# Altium footprint library dl002.PcbLib: 32 footprints (part 1 of 2)
Each footprint in its own frame and in the unit in brackets; x right, y up, seen from the top. Pads: shape width x height; smd on the part's side, far side on the other; paste and mask are expansions set on the pad; w line width, h text height; cw(c..) or ccw(c..) is an arc to the next point about the centre after c.
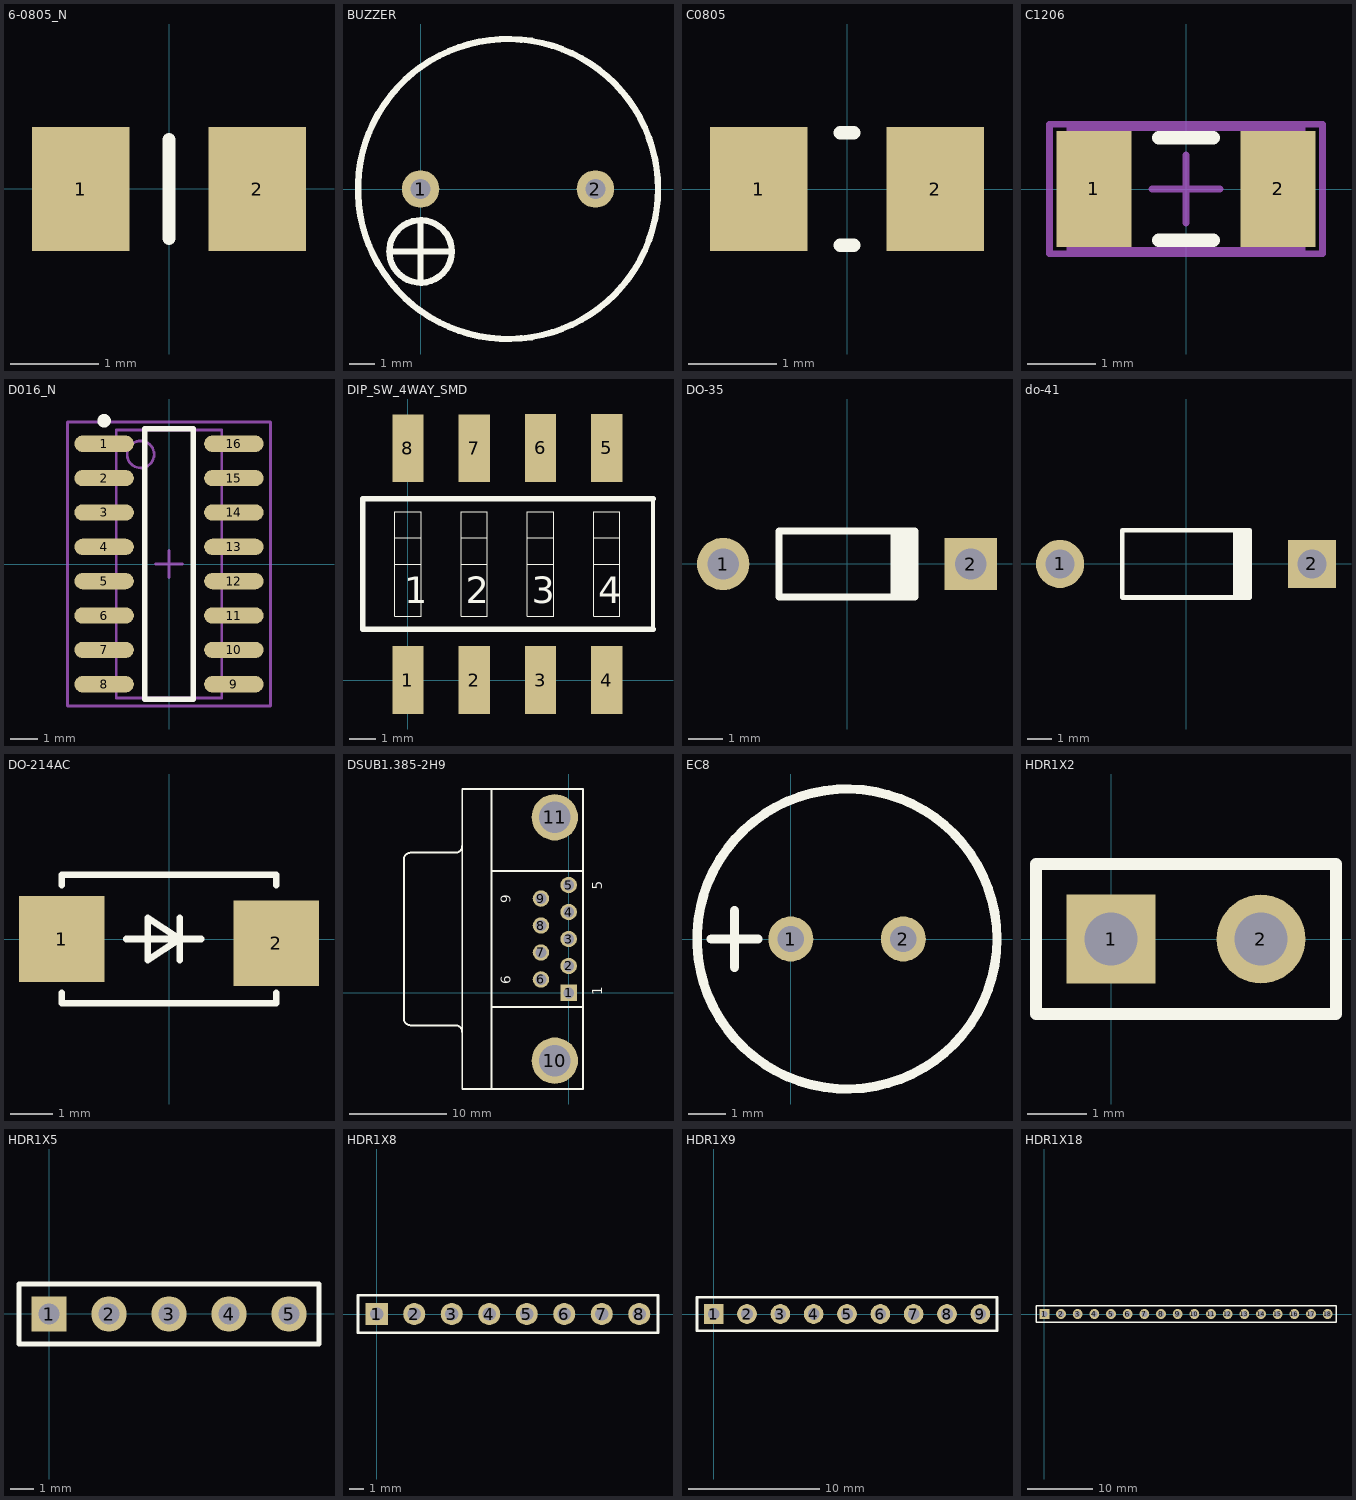
[diagram p0: the footprints below, top view; thin cyan lines are the x and y axes]

## 6-0805_N [mm] "Chip Resistor, Body 2.0x1.2mm, IPC Medium Density"
height 0.7
pads (2):
  rect 1.1x1.4 smd: 1(-1,0) 2(1,0)
Top Overlay:
  lines w0.152: 0,-0.559 0,0.559

## BUZZER [mm]
height 5
pads (2):
  round 1.5 hole 0.8: 1(0,0) 2(7,0)
Top Overlay:
  circle w0.254: c0,-2.5 r1.25
  circle w0.254: c3.5,0 r6.005
  lines w0.254: -1.25,-2.5 1.25,-2.5 ; 0,-3.75 0,-1.25

## C0805 [mm] "Chip Capacitor, Body 2.0x1.3mm, IPC High Density"
height 1.4
pads (2):
  rect 1.1x1.4 smd: 1(-1,0) 2(1,0)
Top Overlay:
  lines w0.152: -0.076,-0.635 0.076,-0.635 ; -0.076,0.635 0.076,0.635

## C1206 [mm] "Chip Capacitor, Body 3.2x1.6mm, IPC High Density"
height 1.3
pads (2):
  rect 1.1x1.7 smd: 1(-1.35,0) 2(1.35,0)
Top Overlay:
  lines w0.2: -0.4,-0.75 0.4,-0.75 ; -0.4,0.75 0.4,0.75
Mechanical 13:
  lines w0.1: -1.7,-0.9 1.7,-0.9 1.7,0.9 -1.7,0.9 -1.7,-0.9
Mechanical 15:
  lines w0.1: -0.5,0 0.5,0 ; 0,-0.5 0,0.5 ; -2,-0.95 2,-0.95 2,0.95 -2,0.95 -2,-0.95
3D body: height 1.3, standoff 0, extent -1.7,-0.9 1.7,0.9

## D016_N [mm] "SOIC, 16-Leads, Body 9.9x3.9mm, Pitch 1.27mm, IPC Medium Density"
height 1.75
pads (16):
  oval 2.2x0.6 smd: 1(-2.4,4.445) 2(-2.4,3.175) 3(-2.4,1.905) 4(-2.4,0.635) 5(-2.4,-0.635) 6(-2.4,-1.905) 7(-2.4,-3.175) 8(-2.4,-4.445) 9(2.4,-4.445) 10(2.4,-3.175) 11(2.4,-1.905) 12(2.4,-0.635) 13(2.4,0.635) 14(2.4,1.905) 15(2.4,3.175) 16(2.4,4.445)
Top Overlay:
  circle w0.25: c-2.4,5.295 r0.125
  lines w0.2: -0.9,-5 0.9,-5 0.9,5 -0.9,5 -0.9,-5
Mechanical 13:
  circle w0.1: c-1.05,4.05 r0.5
  lines w0.1: -1.95,-4.95 1.95,-4.95 1.95,4.95 -1.95,4.95 -1.95,-4.95
Mechanical 15:
  lines w0.1: -0.5,0 0.5,0 ; 0,-0.5 0,0.5 ; -3.75,-5.25 3.75,-5.25 3.75,5.25 -3.75,5.25 -3.75,-5.25
3D body: height 1.75, standoff 0, extent -1.95,-4.95 1.95,4.95

## DIP_SW_4WAY_SMD [mm]
height 2.54
pads (8):
  rect 1.2x2.6 smd: 1(0,0) 2(2.54,0) 3(5.08,0) 4(7.62,0) 5(7.62,8.9) 6(5.08,8.9) 7(2.54,8.89) 8(0,8.89)
Top Overlay:
  lines w0.025: -0.5,4.45 0.5,4.45 ; -0.5,5.45 0.5,5.45 ; 2.04,4.45 3.04,4.45 ; 2.04,5.45 3.04,5.45 ; 4.58,4.45 5.58,4.45 ; 4.58,5.45 5.58,5.45 ; 7.12,4.45 8.12,4.45 ; 7.12,5.45 8.12,5.45 ; -0.5,2.45 0.5,2.45 0.5,6.45 -0.5,6.45 -0.5,2.45 ; 2.04,2.45 3.04,2.45 3.04,6.45 2.04,6.45 2.04,2.45 ; 4.58,2.45 4.58,6.45 5.58,6.45 5.58,2.45 4.58,2.45 ; 7.12,2.45 7.12,6.45 8.12,6.45 8.12,2.45 7.12,2.45
  lines w0.152: 9.398,1.95 9.398,6.95
  lines w0.2: 9.398,1.95 -1.73,1.95 -1.73,6.95 9.398,6.95
  text "4" at 7.29,2.951 h1.02
  text "3" at 4.75,2.951 h1.02
  text "1" at -0.152,2.951 h1.02
  text "2" at 2.21,2.951 h1.02

## DO-35 [mm] "Diode, Axial; Body 3.8 x 1.9 mm (LxDia. max), Lead Dia. 0.53 mm (max)"
height 1.9
pads (2):
  round 1.5 hole 0.9: 1(-3.55,0)
  rect 1.5x1.5 hole 0.9: 2(3.55,0)
Top Overlay:
  rectangle: 1.25,-0.95 2.05,0.95
  lines w0.2: 1.95,-0.95 -1.95,-0.95 -1.95,0.95 1.95,0.95

## do-41 [mm] "Diode, Axial; Body 5.2 x 2.7 mm (LxDia. max), Lead Dia. 0.86 mm (max)"
height 2.8
pads (2):
  round 2 hole 1.2: 1(-5.23,0)
  rect 2x2 hole 1.2: 2(5.23,0)
Top Overlay:
  rectangle: 1.95,-1.406 2.75,1.394
  lines w0.2: 2.65,-1.4 -2.65,-1.4 -2.65,1.4 2.65,1.4

## DO-214AC [mm]
height 2.032
pads (2):
  rect 2x2 smd: 1(-2.5,0) 2(2.5,-0.1)
Top Overlay:
  lines w0.152: -2.5,-1.25 -2.5,-1.5 2.5,-1.5 2.5,-1.25 ; -2.5,1.25 -2.5,1.5 2.5,1.5 2.5,1.25 ; -1,0 0.75,0 ; 0.25,-0.5 0.25,0.5 ; -0.5,-0.5 -0.5,0.5 0.25,0 -0.5,-0.5

## DSUB1.385-2H9 [mm]
height 2.54
pads (11):
  rect 1.69x1.69 hole 1.09: 1(0,0)
  round 1.69 hole 1.09: 2(0,2.77) 3(0,5.54) 4(0,8.31) 5(0,11.08) 6(-2.84,1.385) 7(-2.84,4.155) 8(-2.84,6.925) 9(-2.84,9.695)
  round 4.76 hole 3.26: 10(-1.42,-6.955) 11(-1.42,18.035)
Top Overlay:
  lines w0.2: -16.225,-3.32 cw(c-16.225,-2.625) -16.92,-2.625 -16.92,13.705 cw(c-16.225,13.705) -16.225,14.4 ; -16.22,-3.325 -11.62,-3.325 cw(c-11.62,-4.02) -10.925,-4.02 ; -16.22,14.405 -11.62,14.405 ccw(c-11.62,15.1) -10.925,15.1 ; -7.92,-9.86 -7.92,20.94 ; -7.92,-1.46 1.48,-1.46 ; -7.92,12.54 1.48,12.54 ; -10.92,-9.86 -10.92,20.94 1.48,20.94 1.48,-9.86 -10.92,-9.86
  text "6" at -5.945,0.885 h1.02
  text "9" at -5.945,9.195 h1.02
  text "5" at 3.455,10.58 h1.02
  text "1" at 3.455,-0.25 h1.02

## EC8 [mil]
height 11
pads (2):
  round 48 hole 28: 1(0,0) 2(120,0)
Top Overlay:
  circle w10: c60,0 r160
  lines w10: -85,0 -35,0 ; -60,-30 -60,30

## HDR1X2 [mm] "Connector; Header; 2 Position"
height 2.54
pads (2):
  rect 1.5x1.5 hole 0.9: 1(0,0)
  round 1.5 hole 0.9: 2(2.54,0)
Top Overlay:
  lines w0.2: -1.27,-1.27 -1.27,1.27 3.81,1.27 3.81,-1.27 -1.27,-1.27

## HDR1X5 [mm] "Connector; Header; 5 Position"
height 2.54
pads (5):
  rect 1.5x1.5 hole 0.9: 1(0,0)
  round 1.5 hole 0.9: 2(2.54,0) 3(5.08,0) 4(7.62,0) 5(10.16,0)
Top Overlay:
  lines w0.2: -1.27,-1.27 -1.27,1.27 11.43,1.27 11.43,-1.27 -1.27,-1.27

## HDR1X8 [mm] "Connector; Header; 8 Position"
height 2.54
pads (8):
  rect 1.5x1.5 hole 0.9: 1(0,0)
  round 1.5 hole 0.9: 2(2.54,0) 3(5.08,0) 4(7.62,0) 5(10.16,0) 6(12.7,0) 7(15.24,0) 8(17.78,0)
Top Overlay:
  lines w0.2: -1.27,-1.27 -1.27,1.27 19.05,1.27 19.05,-1.27 -1.27,-1.27

## HDR1X9 [mm] "Connector; Header; 9 Position"
height 2.54
pads (9):
  rect 1.5x1.5 hole 0.9: 1(0,0)
  round 1.5 hole 0.9: 2(2.54,0) 3(5.08,0) 4(7.62,0) 5(10.16,0) 6(12.7,0) 7(15.24,0) 8(17.78,0) 9(20.32,0)
Top Overlay:
  lines w0.2: -1.27,-1.27 21.59,-1.27 21.59,1.27 -1.27,1.27 -1.27,-1.27

## HDR1X18 [mm] "Connector; Header; 18 Position"
height 2.54
pads (18):
  rect 1.5x1.5 hole 0.9: 1(0,0)
  round 1.5 hole 0.9: 2(2.54,0) 3(5.08,0) 4(7.62,0) 5(10.16,0) 6(12.7,0) 7(15.24,0) 8(17.78,0) 9(20.32,0) 10(22.86,0) 11(25.4,0) 12(27.94,0) 13(30.48,0) 14(33.02,0) 15(35.56,0) 16(38.1,0) 17(40.64,0) 18(43.18,0)
Top Overlay:
  lines w0.2: -1.27,-1.27 -1.27,1.27 0.635,1.27 44.45,1.27 44.45,-1.27 -1.27,-1.27